# Altium footprint library con-phoenix-me_max.PCBLIB: 2 footprints
Each footprint in its own frame and in the unit in brackets; x right, y up, seen from the top. Pads: shape width x height; smd on the part's side, far side on the other; paste and mask are expansions set on the pad; w line width, h text height; cw(c..) or ccw(c..) is an arc to the next point about the centre after c.
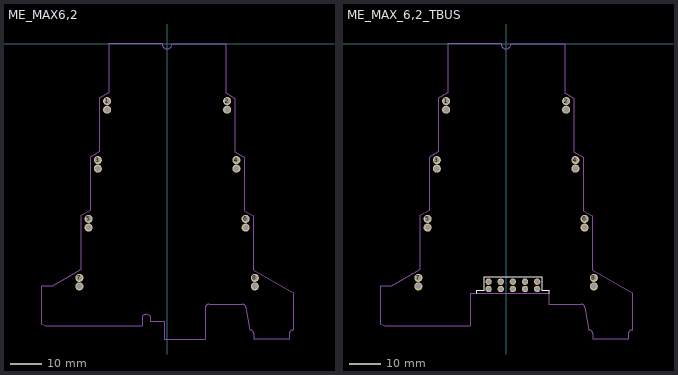
[diagram p0: the footprints below, top view; thin cyan lines are the x and y axes]

## ME_MAX6,2 [mm]
pads (16):
  round 2.54 hole 1.7: 1(-18.85,-17.95) 1@1(-18.85,-20.65) 2(18.85,-17.95) 2@1(18.85,-20.65) 3(-21.75,-36.45) 3@1(-21.75,-39.15) 4(21.75,-36.45) 4@1(21.75,-39.15) 5(-24.65,-54.95) 5@1(-24.65,-57.65) 6(24.65,-54.95) 6@1(24.65,-57.65) 7(-27.55,-73.45) 7@1(-27.55,-76.15) 8(27.55,-73.45) 8@1(27.55,-76.15)
Mechanical 1:
  lines w0: -39.55,-87.875 -39.55,-76.05 -36.05,-76.05 -27.05,-70.85 -27.05,-54.025 -24.15,-52.35 -24.15,-35.525 -21.25,-33.85 -21.25,-17.025 -18.35,-15.35 -18.35,0 -1.55,0 ccw(c0,0) 1.55,0 18.35,0 18.35,-15.35 21.25,-17.025 21.25,-33.85 24.15,-35.525 24.15,-52.35 27.05,-54.025 27.05,-70.85 39.55,-78.067 39.55,-89.85 ccw(c39.548,-91.05) 38.347,-91.05 38.347,-92.65 27.21,-92.65 27.21,-91.05 ccw(c26.011,-91.049) 26.01,-89.85 24.75,-82.705 ccw(c23.568,-82.898) 23.565,-81.7 13.202,-81.7 ccw(c13.2,-82.9) 12,-82.9 12,-92.65 -0.85,-92.65 -0.85,-87.05 -5.31,-87.05 -5.31,-85.523 ccw(c-6.581,-86.639) -7.85,-85.52 -7.85,-88.45 -38.1,-88.45 -39.55,-87.875

## ME_MAX_6,2_TBUS [mm]
pads (26):
  round 2.54 hole 1.7: 1(-18.85,-17.95) 1@1(-18.85,-20.65) 2(18.85,-17.95) 2@1(18.85,-20.65) 3(-21.75,-36.45) 3@1(-21.75,-39.15) 4(21.75,-36.45) 4@1(21.75,-39.15) 5(-24.65,-54.95) 5@1(-24.65,-57.65) 6(24.65,-54.95) 6@1(24.65,-57.65) 7(-27.55,-73.45) 7@1(-27.55,-76.15) 8(27.55,-73.45) 8@1(27.55,-76.15)
  round 2 hole 1.4: B1(-5.5,-74.65) B1@1(-5.5,-76.95) B2(-1.675,-74.65) B2@1(-1.675,-76.95) B3(2.125,-74.65) B3@1(2.125,-76.95) B4(5.95,-74.65) B4@1(5.95,-76.95) B5(9.75,-74.65) B5@1(9.75,-76.95)
Top Overlay:
  lines w0.002: -9.175,-78.35 -9.175,-77.35 -6.9,-77.35 -6.9,-73.05 11.15,-73.05 11.15,-77.35 13.425,-77.35 13.425,-78.35
Mechanical 1:
  lines w0: -39.55,-87.875 -39.55,-76.05 -36.05,-76.05 -27.05,-70.85 -27.05,-54.025 -24.15,-52.35 -24.15,-35.525 -21.25,-33.85 -21.25,-17.025 -18.35,-15.35 -18.35,0 -1.55,0 ccw(c0,0) 1.55,0 18.35,0 18.35,-15.35 21.25,-17.025 21.25,-33.85 24.15,-35.525 24.15,-52.35 27.05,-54.025 27.05,-70.85 39.55,-78.067 39.55,-89.85 ccw(c39.548,-91.05) 38.347,-91.05 38.347,-92.65 27.21,-92.65 27.21,-91.05 ccw(c26.011,-91.049) 26.01,-89.85 24.75,-82.705 ccw(c23.568,-82.898) 23.565,-81.7 13.43,-81.7 13.43,-78.35 -11.27,-78.35 -11.27,-88.45 -38.1,-88.45 -39.55,-87.875